# Altium schematic symbol library NodeMcu_v3.SchLib: 1 symbol
Pins are listed as number, name and electrical type; pins without a type are passive.

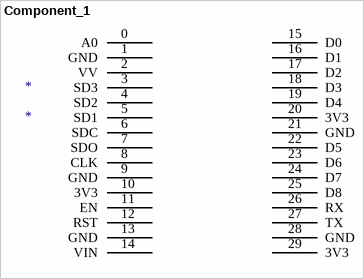
[diagram p0: symbol Component_1]

## Component_1
designator *
pins: 0 A0, 1 GND (power), 2 VV, 3 SD3, 4 SD2, 5 SD1, 6 SDC, 7 SDO, 8 CLK, 9 GND (power), 10 3V3 (power), 11 EN, 12 RST, 13 GND (power), 14 VIN, 15 D0, 16 D1, 17 D2, 18 D3, 19 D4, 20 3V3 (power), 21 GND (power), 22 D5, 23 D6, 24 D7, 25 D8, 26 RX, 27 TX, 28 GND (power), 29 3V3 (power)